# Altium schematic symbol library optocouplers.schlib: 22 symbols
Pins are listed as number, name and electrical type; pins without a type are passive.

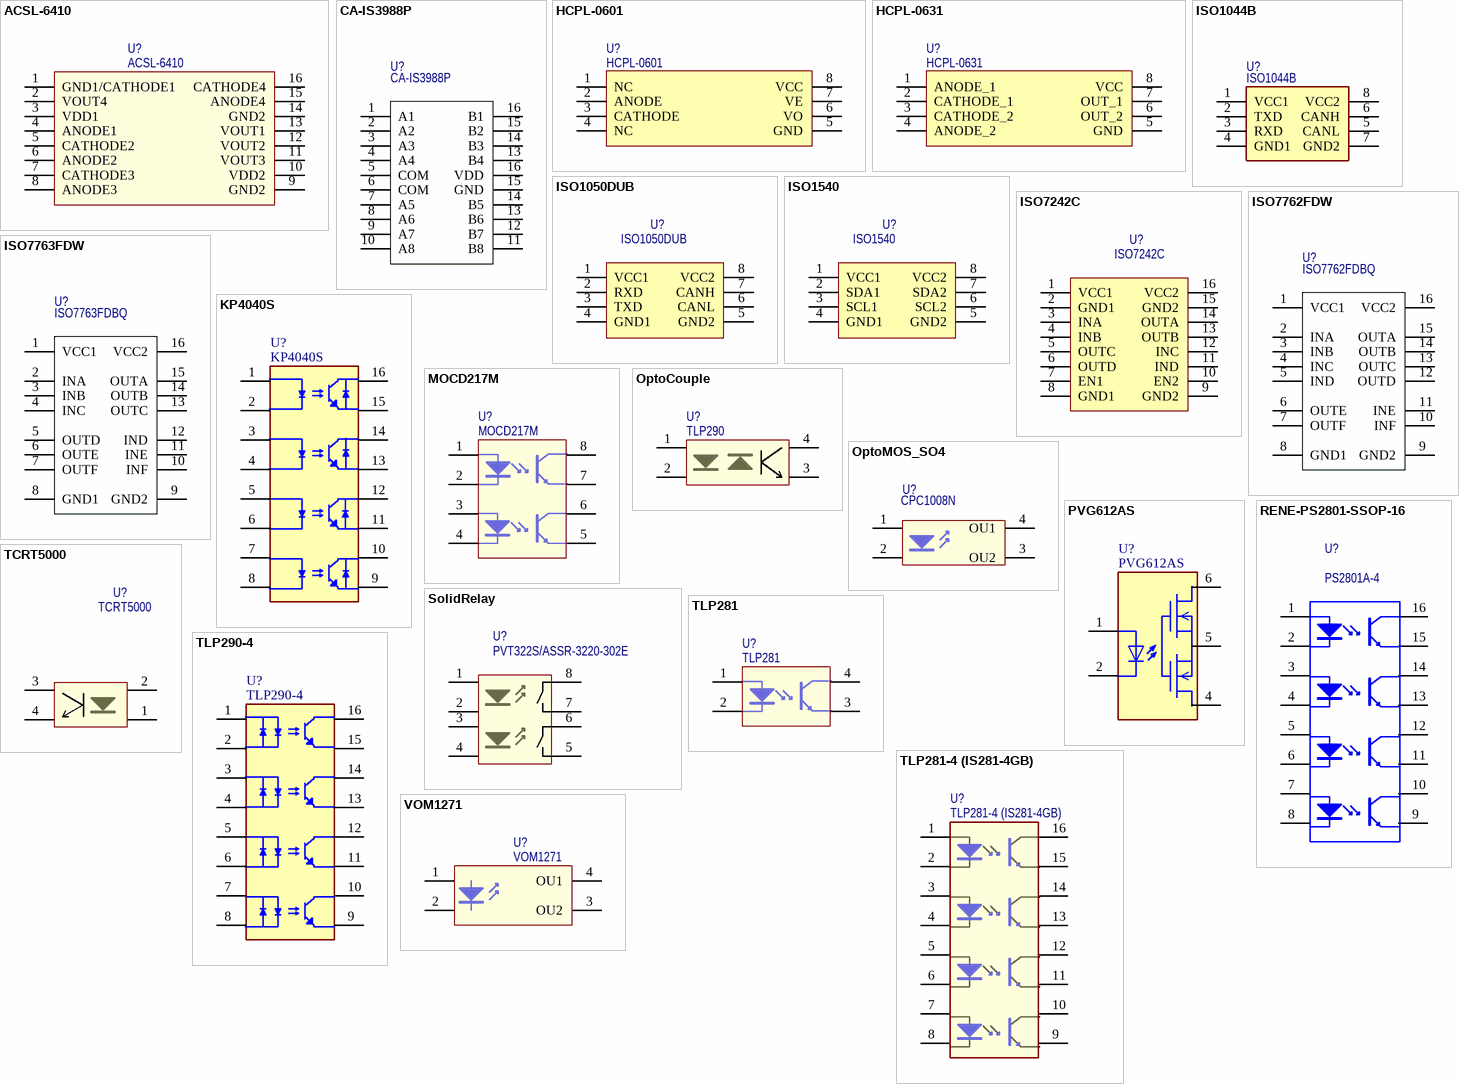
[diagram p0: symbols ACSL-6410 to VOM1271]

## ACSL-6410
designator U?
ACSL-6410 Fast OptoCouples
footprint SO-16
pins: 1 GND1/CATHODE1, 2 VOUT4, 3 VDD1, 4 ANODE1, 5 CATHODE2, 6 ANODE2, 7 CATHODE3, 8 ANODE3, 9 GND2, 10 VDD2, 11 VOUT3, 12 VOUT2, 13 VOUT1, 14 GND2, 15 ANODE4, 16 CATHODE4

## CA-IS3988P
designator U?
Part: CA-IS3988P
footprint SSOP-20_L8.6-W3.9-P0.64-LS6.0-BL-1
pins: 1 A1, 2 A2, 3 A3, 4 A4, 5 COM, 6 COM, 7 A5, 8 A6, 9 A7, 10 A8, 11 B8, 12 B7, 13 B6, 13 B4, 14 B5, 14 B3, 15 GND, 15 B2, 16 VDD, 16 B1

## HCPL-0601
designator U?
High CMR, High Speed TTL Compatible Optocouplers; Part: HCPL-0601
footprint SOIC-8 / motorolla case 846-01 style 3
pins: 1 NC, 2 ANODE, 3 CATHODE, 4 NC, 5 GND, 6 VO, 7 VE, 8 VCC

## HCPL-0631
designator U?
High CMR, High Speed TTL Compatible Optocouplers; Part: HCPL-0631
footprint SOIC-8 / motorolla case 846-01 style 3
pins: 1 ANODE_1, 2 CATHODE_1, 3 CATHODE_2, 4 ANODE_2, 5 GND, 6 OUT_2, 7 OUT_1, 8 VCC

## ISO1044B
designator U?
footprint FP-D0008A-IPC_C
pins: 1 VCC1, 2 TXD, 3 RXD, 4 GND1, 5 CANL, 6 CANH, 7 GND2, 8 VCC2

## ISO1050DUB
designator U?
isol CAN transiever
footprint SOP-8
pins: 1 VCC1, 2 RXD, 3 TXD, 4 GND1, 5 GND2, 6 CANL, 7 CANH, 8 VCC2

## ISO1540
designator U?
isol I2C transiever
footprint SOIC 8/iso ti i2c
pins: 1 VCC1, 2 SDA1, 3 SCL1, 4 GND1, 5 GND2, 6 SCL2, 7 SDA2, 8 VCC2

## ISO7242C
designator U?
isol 2/2 tranciever
footprint SOIC-16 (only TI isol chip )
pins: 1 VCC1, 2 GND1, 3 INA, 4 INB, 5 OUTC, 6 OUTD, 7 EN1, 8 GND1, 9 GND2, 10 EN2, 11 IND, 12 INC, 13 OUTB, 14 OUTA, 15 GND2, 16 VCC2

## ISO7762FDW
designator U?, comment ISO7762FDBQ
footprint FP-DBQ0016A-MFG
pins: 1 VCC1, 2 INA, 3 INB, 4 INC, 5 IND, 6 OUTE, 7 OUTF, 8 GND1, 9 GND2, 10 INF, 11 INE, 12 OUTD, 13 OUTC, 14 OUTB, 15 OUTA, 16 VCC2

## ISO7763FDW
designator U?, comment ISO7763FDBQ
footprint FP-DBQ0016A-MFG
pins: 1 VCC1, 2 INA, 3 INB, 4 INC, 5 OUTD, 6 OUTE, 7 OUTF, 8 GND1, 9 GND2, 10 INF, 11 INE, 12 IND, 13 OUTC, 14 OUTB, 15 OUTA, 16 VCC2

## KP4040S
designator U?
Optoisolator Transistor Output 2500Vrms 4 Channel 16-SO; Part: KP4040S
footprint KP4040S (16-Leads, Body 19,84x6,50mm, Pitch 2,54mm, IPC Medium Density)
pins: 1, 2, 3, 4, 5, 6, 7, 8, 9, 10, 11, 12, 13, 14, 15, 16

## MOCD217M
designator U?
2 chennel optocoupler
footprint SOIC-8 / motorolla case 846-01 style 3
pins: 1 Anode1, 2 Cathode1, 3 Anode2, 4 Cathode2, 5 Emitter2, 6 Collector2, 7 Emitter1, 8 Collector1

## OptoCouple
designator U?, comment TLP290
4-Pin Phototransistor Optocoupler; Published: 24-Mar-1999; LatestRevisionDate: 04-Mar-2005; LatestRevisionNote: Sch pins 3 & 4 Swapped.; DatasheetVersion: Nov-2003; PackageReference: SO-4; Publisher: Altium Limited
footprint SO4_1.27 (S0-4)
pins: 1 "Anode", 2 "Cathode", 3 "Emitter", 4 "Collector"

## OptoMOS_SO4
designator U?, comment CPC1008N
4-Pin Phototransistor Optocoupler; Published: 24-Mar-1999; LatestRevisionDate: 04-Mar-2005; LatestRevisionNote: Sch pins 3 & 4 Swapped.; DatasheetVersion: Nov-2003; PackageReference: SO-4; Publisher: Altium Limited
footprint SO4_2_54 (S0-4)
pins: 1 A "Anode", 2 K "Cathode", 3 OU2 "Emitter", 4 OU1 "Collector"

## PVG612AS
designator U?
Microelectronic Power IC / HEXFET® Power MOSFET Photovoltaic Relay / Single-Pole, Normally-Open, 0-60V, 2.0A AC / 4.0A DC; Part: PVG612AS
footprint PVG612AS (SOP, 6-Leads, Body 8,38x6,35mm, Pitch 2,54mm, IPC Medium Density)
pins: 1 A, 2 C, 4 D2, 5 S, 6 D1

## RENE-PS2801-SSOP-16
designator U?, comment PS2801A-4
footprint RENE-SSOP-16_V (SOIC, 16-Leads, Body 10.6x4.4mm, Pitch 1.27mm)
pins: 1 Anode1, 2 Cathode1, 3 Anode2, 4 Cathode2, 5 Anode3, 6 Cathode3, 7 Anode4, 8 Cathode4, 9 Emitter4, 10 Collector4, 11 Emitter3, 12 Collector3, 13 Emitter2, 14 Collector2, 15 Emitter1, 16 Collector1

## SolidRelay
designator U?, comment PVT322S/ASSR-3220-302E
8-Pin Solid State Relay
footprint DIP-8_SM
pins: 1, 2, 3, 4, 5, 6, 7, 8

## TCRT5000
designator U?
Reflective Optical Sensor with Transistor Output
footprint TCRT5000
pins: 1 "Anode", 2 "Cathode", 3 "Emitter", 4 "Collector"

## TLP281
designator U?
optocoupler; Part: TLP281
footprint SOP-4 TOSHIBA
pins: 1 Anode1, 2 Cathode1, 3 Emitter1, 4 Collector1

## TLP281-4 (IS281-4GB)
designator U?
4ch optocoupler; Part: TLP281-4; Alt: IS281-4GB
footprint THP4
pins: 1 Anode1, 2 Cathode1, 3 Anode2, 4 Cathode2, 5 Anode3, 6 Cathode3, 7 Anode4, 8 Cathode4, 9 Emitter4, 10 Collector4, 11 Emitter3, 12 Collector3, 13 Emitter2, 14 Collector2, 15 Emitter1, 16 Collector1

## TLP290-4
designator U?
Optoisolator Transistor Output 2500Vrms 4 Channel 16-SO; Part: TLP290-4
footprint SO-16 TOSHIBA (10.3x7.0) (10.3x7.0)
pins: 1, 2, 3, 4, 5, 6, 7, 8, 9, 10, 11, 12, 13, 14, 15, 16

## VOM1271
designator U?
Photovoltaic MOSFET Driver
footprint SOP-4 (Vishay photovoltaic)
pins: 1 A "Anode", 2 K "Cathode", 3 OU2 "Emitter", 4 OU1 "Collector"